# EAGLE library part XCV2000E_FG1156 (library xilinx-xcv)
xcv2000e_fg1156 edit this description Auto generated by make-symbol-device-package-bsdl.ulp Rev. 26 Source: xcv2000e_fg1156.bsd
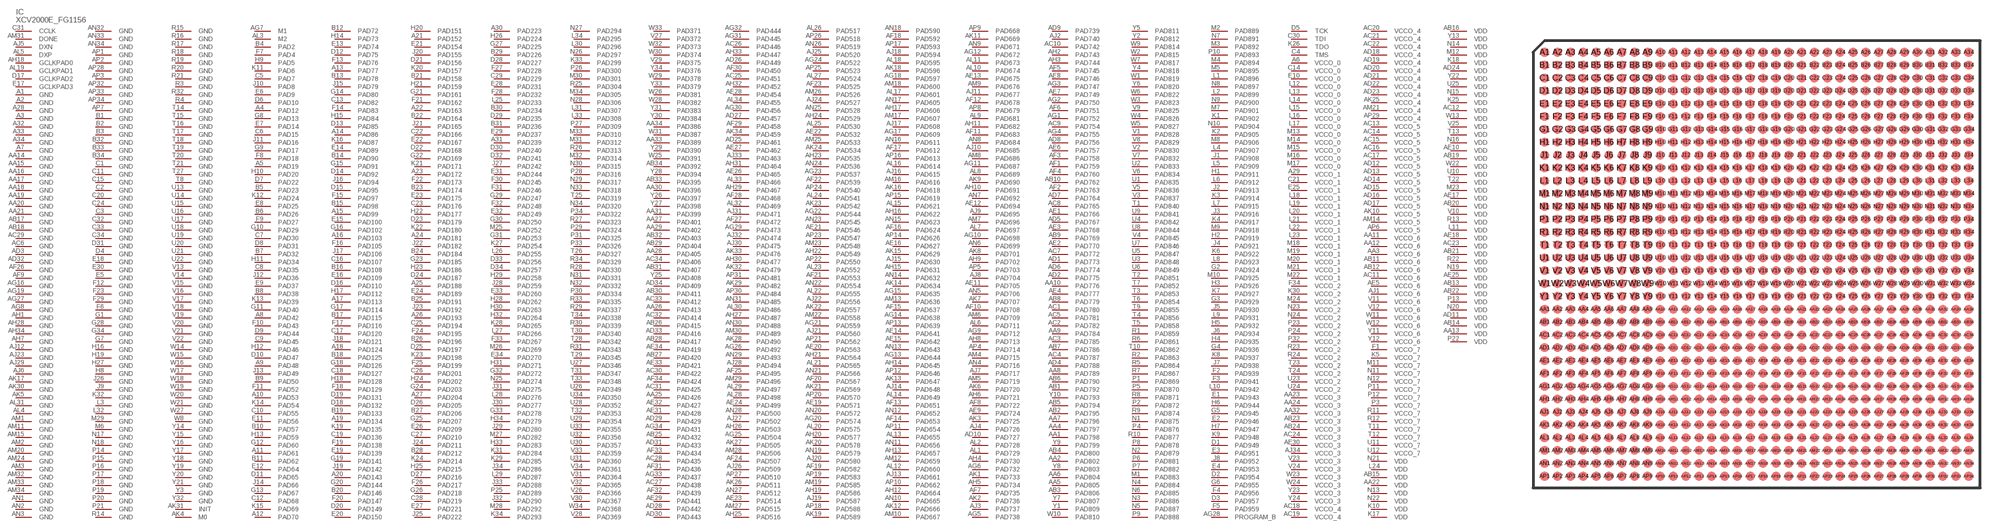
[diagram p50: symbol with the pads of FG1156; footprint FG1156]

Designator prefix IC

## XCV2000E_FG1156 (OC_FARNELL: unknown; OC_NEWARK: unknown)  [FG1156]
A1  GND  pwr
A2  GND  pwr
A3  GND  pwr
A4  PAD12
A5  PAD19
A6  VCCO_0  pwr
A7  GND  pwr
A8  PAD42
A9  PAD48
A10  PAD53
A11  PAD61
A12  PAD70
A13  PAD77
A14  PAD86
A15  PAD99
A16  PAD103
A17  PAD113
A18  PAD124
A19  PAD134
A20  PAD143
A21  PAD152
A22  PAD163
A23  PAD172
A24  PAD181
A25  PAD188
A26  PAD193
A27  PAD204
A28  GND  pwr
A29  VCCO_1  pwr
A30  PAD223
A31  PAD239
A32  GND  pwr
A33  GND  pwr
A34  GND  pwr
AA1  PAD798
AA2  PAD802
AA3  VCCO_6  pwr
AA4  PAD797
AA5  PAD805
AA6  PAD804
AA7  PAD796
AA8  PAD789
AA9  PAD784
AA10  PAD776
AA11  VCCO_6  pwr
AA12  VCCO_6  pwr
AA13  VDD  pwr
AA14  GND  pwr
AA15  GND  pwr
AA16  GND  pwr
AA17  GND  pwr
AA18  GND  pwr
AA19  GND  pwr
AA20  GND  pwr
AA21  GND  pwr
AA22  VDD  pwr
AA23  VCCO_3  pwr
AA24  VCCO_3  pwr
AA25  PAD426
AA26  PAD413
AA27  PAD401
AA28  PAD405
AA29  PAD402
AA30  PAD396
AA31  PAD399
AA32  VCCO_3  pwr
AA33  PAD389
AA34  PAD386
AB1  PAD792
AB2  PAD795
AB3  PAD806
AB4  PAD800
AB5  PAD794
AB6  PAD790
AB7  PAD786
AB8  PAD779
AB9  PAD769
AB10  PAD762
AB11  VCCO_6  pwr
AB12  VCCO_6  pwr
AB13  VDD  pwr
AB14  VDD  pwr
AB15  VDD  pwr
AB16  VDD  pwr
AB17  GND  pwr
AB18  GND  pwr
AB19  VDD  pwr
AB20  VDD  pwr
AB21  VDD  pwr
AB22  VDD  pwr
AB23  VCCO_3  pwr
AB24  VCCO_3  pwr
AB25  PAD432
AB26  PAD415
AB27  PAD420
AB28  PAD417
AB29  PAD404
AB30  PAD411
AB31  PAD407
AB32  PAD403
AB33  PAD395
AB34  PAD392
AC1  PAD780
AC2  PAD782
AC3  PAD785
AC4  PAD787
AC5  PAD781
AC6  GND  pwr
AC7  PAD772
AC8  PAD765
AC9  PAD754
AC10  PAD742
AC11  VCCO_6  pwr
AC12  VDD  pwr
AC13  VCCO_5  pwr
AC14  VCCO_5  pwr
AC15  VCCO_5  pwr
AC16  VCCO_5  pwr
AC17  VCCO_5  pwr
AC18  VCCO_4  pwr
AC19  VCCO_4  pwr
AC20  VCCO_4  pwr
AC21  VCCO_4  pwr
AC22  VCCO_4  pwr
AC23  VDD  pwr
AC24  VCCO_3  pwr
AC25  PAD451
AC26  PAD446
AC27  PAD438
AC28  PAD435
AC29  GND  pwr
AC30  PAD422
AC31  PAD425
AC32  PAD414
AC33  PAD412
AC34  PAD406
AD1  PAD773
AD2  PAD775
AD3  GND  pwr
AD4  PAD788
AD5  PAD767
AD6  PAD774
AD7  PAD764
AD8  PAD756
AD9  PAD739
AD10  PAD727
AD11  VDD  pwr
AD12  VCCO_5  pwr
AD13  VCCO_5  pwr
AD14  VCCO_5  pwr
AD15  VCCO_5  pwr
AD16  VCCO_5  pwr
AD17  VCCO_5  pwr
AD18  VCCO_4  pwr
AD19  VCCO_4  pwr
AD20  VCCO_4  pwr
AD21  VCCO_4  pwr
AD22  VCCO_4  pwr
AD23  VCCO_4  pwr
AD24  VDD  pwr
AD25  PAD461
AD26  PAD449
AD27  PAD457
AD28  PAD442
AD29  PAD429
AD30  PAD443
AD31  PAD433
AD32  GND  pwr
AD33  PAD416
AD34  PAD409
AE1  PAD766
AE2  PAD770
AE3  PAD768
AE4  PAD777
AE5  VCCO_6  pwr
AE6  PAD757
AE7  PAD749
AE8  PAD746
AE9  PAD724
AE10  VDD  pwr
AE11  PAD705
AE12  PAD694
AE13  PAD675
AE14  PAD641
AE15  PAD642
AE16  PAD627
AE17  VDD  pwr
AE18  VDD  pwr
AE19  PAD571
AE20  PAD563
AE21  PAD546
AE22  PAD532
AE23  PAD514
AE24  PAD499
AE25  VDD  pwr
AE26  PAD465
AE27  PAD462
AE28  PAD454
AE29  PAD441
AE30  VCCO_3  pwr
AE31  PAD428
AE32  PAD427
AE33  PAD421
AE34  PAD419
AF1  PAD759
AF2  PAD763
AF3  PAD758
AF4  PAD760
AF5  PAD745
AF6  PAD751
AF7  PAD735
AF8  PAD722
AF9  GND  pwr
AF10  PAD708
AF11  PAD683
AF12  PAD678
AF13  PAD651
AF14  PAD653
AF15  PAD637
AF16  PAD624
AF17  PAD612
AF18  PAD592
AF19  PAD582
AF20  PAD567
AF21  PAD553
AF22  PAD539
AF23  PAD525
AF24  PAD507
AF25  PAD495
AF26  GND  pwr
AF27  PAD472
AF28  PAD468
AF29  PAD458
AF30  PAD450
AF31  PAD436
AF32  PAD439
AF33  PAD434
AF34  PAD424
AG1  PAD752
AG2  PAD750
AG3  PAD747
AG4  PAD755
AG5  PAD738
AG6  PAD732
AG7  M1  in
AG8  GND  pwr
AG9  PAD712
AG10  PAD698
AG11  PAD687
AG12  PAD672
AG13  PAD644
AG14  PAD638
AG15  PAD635
AG16  GND  pwr
AG17  PAD609
AG18  PAD597
AG19  GND  pwr
AG20  PAD574
AG21  PAD559
AG22  PAD544
AG23  PAD537
AG24  PAD522
AG25  PAD504
AG26  PAD492
AG27  GND  pwr
AG28  PROGRAM_B  in
AG29  PAD473
AG30  PAD456
AG31  PAD445
AG32  PAD444
AG33  PAD437
AG34  PAD431
AH1  GND  pwr
AH2  PAD743
AH3  PAD744
AH4  PAD730
AH5  PAD734
AH6  PAD721
AH7  GND  pwr
AH8  PAD713
AH9  PAD702
AH10  PAD691
AH11  PAD682
AH12  PAD664
AH13  PAD657
AH14  PAD645
AH15  PAD631
AH16  PAD622
AH17  PAD606
AH18  GCLKPAD0  in
AH19  PAD586
AH20  PAD577
AH21  PAD564
AH22  PAD549
AH23  PAD535
AH24  PAD529
AH25  PAD516
AH26  PAD503
AH27  PAD487
AH28  GND  pwr
AH29  PAD467
AH30  PAD477
AH31  PAD464
AH32  PAD452
AH33  PAD447
AH34  GND  pwr
AJ1  VCCO_6  pwr
AJ2  PAD740
AJ3  PAD737
AJ4  PAD726
AJ5  DXN  pas
AJ6  GND  pwr
AJ7  PAD717
AJ8  PAD704
AJ9  PAD695
AJ10  PAD685
AJ11  PAD677
AJ12  GND  pwr
AJ13  PAD661
AJ14  PAD648
AJ15  PAD630
AJ16  PAD615
AJ17  PAD608
AJ18  PAD594
AJ19  PAD587
AJ20  PAD580
AJ21  PAD560
AJ22  PAD556
AJ23  GND  pwr
AJ24  PAD527
AJ25  PAD520
AJ26  PAD509
AJ27  PAD502
AJ28  PAD494
AJ29  GND  pwr
AJ30  PAD475
AJ31  PAD471
AJ32  PAD474
AJ33  PAD463
AJ34  VCCO_3  pwr
AK1  PAD733
AK2  PAD736
AK3  PAD725
AK4  M0  in
AK5  GND  pwr
AK6  PAD720
AK7  PAD707
AK8  PAD701
AK9  PAD690
AK10  VCCO_5  pwr
AK11  PAD669
AK12  PAD666
AK13  PAD647
AK14  PAD634
AK15  PAD629
AK16  PAD618
AK17  GND  pwr
AK18  PAD596
AK19  PAD589
AK20  PAD578
AK21  PAD569
AK22  PAD557
AK23  PAD542
AK24  PAD534
AK25  VCCO_4  pwr
AK26  PAD511
AK27  PAD505
AK28  PAD490
AK29  PAD482
AK30  GND  pwr
AK31  INIT
AK32  PAD479
AK33  PAD476
AK34  PAD459
AL1  PAD729
AL2  PAD728
AL3  M2  in
AL4  GND  pwr
AL5  DXP  pas
AL6  PAD711
AL7  PAD697
AL8  PAD689
AL9  PAD681
AL10  PAD674
AL11  PAD673
AL12  PAD660
AL13  PAD655
AL14  PAD649
AL15  PAD621
AL16  PAD614
AL17  PAD601
AL18  PAD595
AL19  GCLKPAD1  in
AL20  PAD575
AL21  PAD565
AL22  PAD555
AL23  PAD552
AL24  PAD541
AL25  PAD530
AL26  PAD517
AL27  PAD524
AL28  PAD498
AL29  PAD497
AL30  PAD486
AL31  GND  pwr
AL32  PAD469
AL33  PAD466
AL34  PAD455
AM1  GND  pwr
AM2  GND  pwr
AM3  GND  pwr
AM4  PAD715
AM5  PAD719
AM6  PAD709
AM7  PAD696
AM8  PAD686
AM9  PAD676
AM10  PAD667
AM11  GND  pwr
AM12  PAD659
AM13  PAD636
AM14  VCCO_5  pwr
AM15  GND  pwr
AM16  PAD616
AM17  PAD607
AM18  PAD600
AM19  PAD585
AM20  GND  pwr
AM21  VCCO_4  pwr
AM22  PAD558
AM23  PAD548
AM24  GND  pwr
AM25  PAD533
AM26  PAD526
AM27  PAD515
AM28  PAD506
AM29  PAD496
AM30  PAD489
AM31  DONE
AM32  GND  pwr
AM33  GND  pwr
AM34  GND  pwr
AN1  GND  pwr
AN2  GND  pwr
AN3  GND  pwr
AN4  PAD716
AN5  PAD706
AN6  PAD699
AN7  PAD692
AN8  PAD684
AN9  PAD671
AN10  PAD665
AN11  PAD656
AN12  PAD652
AN13  PAD643
AN14  PAD632
AN15  PAD623
AN16  PAD611
AN17  PAD605
AN18  PAD590
AN19  PAD579
AN20  PAD572
AN21  PAD566
AN22  PAD554
AN23  PAD545
AN24  PAD536
AN25  PAD528
AN26  PAD519
AN27  PAD512
AN28  PAD500
AN29  PAD493
AN30  PAD488
AN31  PAD485
AN32  GND  pwr
AN33  GND  pwr
AN34  GND  pwr
AP1  GND  pwr
AP2  GND  pwr
AP3  GND  pwr
AP4  PAD714
AP5  PAD703
AP6  VCCO_5  pwr
AP7  GND  pwr
AP8  PAD679
AP9  PAD668
AP10  PAD662
AP11  PAD654
AP12  PAD646
AP13  PAD639
AP14  PAD626
AP15  PAD619
AP16  PAD613
AP17  PAD593
AP18  PAD588
AP19  PAD583
AP20  PAD570
AP21  PAD562
AP22  PAD550
AP23  PAD547
AP24  PAD540
AP25  PAD523
AP26  PAD518
AP27  PAD510
AP28  GND  pwr
AP29  VCCO_4  pwr
AP30  PAD484
AP31  PAD481
AP32  GND  pwr
AP33  GND  pwr
AP34  GND  pwr
B1  GND  pwr
B2  GND  pwr
B3  GND  pwr
B4  PAD2
B5  PAD23
B6  PAD26
B7  PAD32
B8  PAD38
B9  PAD50
B10  PAD57
B11  PAD62
B12  PAD72
B13  PAD78
B14  PAD90
B15  PAD98
B16  PAD108
B17  PAD115
B18  PAD125
B19  PAD133
B20  PAD146
B21  PAD158
B22  PAD164
B23  PAD174
B24  PAD184
B25  PAD191
B26  PAD196
B27  PAD206
B28  PAD212
B29  PAD226
B30  PAD234
B31  PAD236
B32  GND  pwr
B33  GND  pwr
B34  GND  pwr
C1  GND  pwr
C2  GND  pwr
C3  GND  pwr
C4  TMS  in
C5  PAD7
C6  PAD15
C7  PAD30
C8  PAD35
C9  PAD45
C10  PAD55
C11  GND  pwr
C12  PAD68
C13  PAD82
C14  VCCO_0  pwr
C15  GND  pwr
C16  PAD107
C17  PAD120
C18  PAD127
C19  PAD136
C20  GND  pwr
C21  VCCO_1  pwr
C22  PAD166
C23  PAD176
C24  GND  pwr
C25  PAD194
C26  PAD201
C27  PAD210
C28  PAD219
C29  PAD229
C30  TDI  in
C31  CCLK
C32  GND  pwr
C33  GND  pwr
C34  GND  pwr
D1  PAD949
D2  PAD954
D3  PAD957
D4  GND  pwr
D5  TCK  in
D6  PAD10
D7  PAD22
D8  PAD31
D9  PAD44
D10  PAD47
D11  PAD65
D12  PAD75
D13  PAD85
D14  PAD92
D15  PAD95
D16  PAD110
D17  GCLKPAD2  in
D18  PAD132
D19  PAD131
D20  PAD149
D21  PAD156
D22  PAD168
D23  PAD179
D24  PAD187
D25  PAD197
D26  PAD205
D27  PAD216
D28  PAD227
D29  PAD235
D30  PAD240
D31  GND  pwr
D32  PAD241
D33  PAD256
D34  PAD257
E1  PAD943
E2  PAD946
E3  PAD951
E4  PAD953
E5  GND  pwr
E6  PAD9
E7  PAD14
E8  PAD25
E9  PAD37
E10  VCCO_0  pwr
E11  PAD56
E12  PAD64
E13  PAD74
E14  PAD89
E15  PAD100
E16  PAD109
E17  GCLKPAD3  in
E18  GND  pwr
E19  PAD139
E20  PAD150
E21  PAD154
E22  PAD167
E23  PAD175
E24  PAD189
E25  VCCO_1  pwr
E26  PAD209
E27  PAD221
E28  PAD231
E29  PAD237
E30  GND  pwr
E31  PAD244
E32  PAD249
E33  PAD260
E34  PAD270
F1  VCCO_7  pwr
F2  PAD939
F3  PAD941
F4  PAD956
F5  PAD959
F6  GND  pwr
F7  PAD4
F8  PAD18
F9  PAD27
F10  PAD43
F11  PAD52
F12  GND  pwr
F13  PAD76
F14  PAD83
F15  PAD97
F16  PAD105
F17  PAD116
F18  PAD129
F19  PAD138
F20  PAD147
F21  PAD162
F22  PAD173
F23  GND  pwr
F24  PAD195
F25  PAD199
F26  PAD217
F27  PAD228
F28  PAD232
F29  GND  pwr
F30  PAD245
F31  PAD246
F32  PAD248
F33  PAD267
F34  VCCO_2  pwr
G1  GND  pwr
G2  PAD924
G3  PAD929
G4  PAD936
G5  PAD945
G6  PAD955
G7  GND  pwr
G8  PAD13
G9  PAD17
G10  PAD29
G11  PAD40
G12  PAD60
G13  PAD67
G14  PAD80
G15  PAD91
G16  PAD102
G17  PAD114
G18  PAD126
G19  PAD141
G20  PAD144
G21  PAD161
G22  PAD169
G23  PAD185
G24  PAD203
G25  PAD207
G26  PAD218
G27  PAD225
G28  GND  pwr
G29  PAD247
G30  PAD250
G31  PAD253
G32  PAD272
G33  PAD278
G34  GND  pwr
H1  PAD911
H2  PAD919
H3  PAD926
H4  PAD935
H5  PAD932
H6  PAD944
H7  PAD947
H8  GND  pwr
H9  PAD5
H10  PAD20
H11  PAD34
H12  PAD46
H13  PAD59
H14  PAD73
H15  PAD84
H16  GND  pwr
H17  PAD112
H18  PAD128
H19  GND  pwr
H20  PAD151
H21  PAD159
H22  PAD177
H23  PAD186
H24  PAD202
H25  PAD215
H26  PAD224
H27  GND  pwr
H28  PAD262
H29  PAD258
H30  PAD263
H31  PAD271
H32  PAD264
H33  PAD283
H34  PAD279
J1  PAD908
J2  PAD913
J3  PAD916
J4  PAD921
J5  PAD930
J6  PAD934
J7  PAD938
J8  PAD952
J9  GND  pwr
J10  PAD8
J11  PAD16
J12  PAD36
J13  PAD49
J14  PAD66
J15  PAD79
J16  PAD94
J17  PAD106
J18  PAD121
J19  PAD142
J20  PAD155
J21  PAD165
J22  PAD182
J23  PAD192
J24  PAD211
J25  PAD222
J26  GND  pwr
J27  PAD242
J28  PAD259
J29  PAD280
J30  PAD277
J31  PAD275
J32  PAD290
J33  PAD288
J34  PAD286
K1  PAD902
K2  PAD905
K3  PAD914
K4  PAD917
K5  VCCO_7  pwr
K6  PAD922
K7  PAD927
K8  PAD937
K9  PAD948
K10  VDD  pwr
K11  PAD6
K12  PAD24
K13  PAD39
K14  PAD54
K15  PAD69
K16  PAD87
K17  VDD  pwr
K18  VDD  pwr
K19  PAD135
K20  PAD157
K21  PAD171
K22  PAD180
K23  PAD198
K24  PAD214
K25  VDD  pwr
K26  TDO  out
K27  PAD254
K28  PAD265
K29  PAD285
K30  VCCO_2  pwr
K31  PAD284
K32  GND  pwr
K33  PAD299
K34  PAD293
L1  PAD896
L2  PAD899
L3  GND  pwr
L4  PAD907
L5  PAD909
L6  PAD912
L7  PAD915
L8  PAD923
L9  PAD931
L10  PAD942
L11  VDD  pwr
L12  VCCO_0  pwr
L13  VCCO_0  pwr
L14  VCCO_0  pwr
L15  VCCO_0  pwr
L16  VCCO_0  pwr
L17  VCCO_0  pwr
L18  VCCO_1  pwr
L19  VCCO_1  pwr
L20  VCCO_1  pwr
L21  VCCO_1  pwr
L22  VCCO_1  pwr
L23  VCCO_1  pwr
L24  VDD  pwr
L25  PAD233
L26  PAD255
L27  PAD266
L28  PAD276
L29  PAD287
L30  PAD296
L31  PAD307
L32  GND  pwr
L33  PAD308
L34  PAD295
M1  PAD883
M2  PAD889
M3  PAD892
M4  PAD894
M5  PAD895
M6  GND  pwr
M7  PAD901
M8  PAD906
M9  PAD918
M10  PAD925
M11  VCCO_7  pwr
M12  VDD  pwr
M13  VCCO_0  pwr
M14  VCCO_0  pwr
M15  VCCO_0  pwr
M16  VCCO_0  pwr
M17  VCCO_0  pwr
M18  VCCO_1  pwr
M19  VCCO_1  pwr
M20  VCCO_1  pwr
M21  VCCO_1  pwr
M22  VCCO_1  pwr
M23  VDD  pwr
M24  VCCO_2  pwr
M25  PAD252
M26  PAD269
M27  PAD282
M28  PAD292
M29  GND  pwr
M30  PAD301
M31  PAD312
M32  PAD314
M33  PAD310
M34  PAD305
N1  PAD875
N2  PAD879
N3  PAD886
N4  PAD884
N5  PAD887
N6  PAD885
N7  PAD891
N8  PAD897
N9  PAD900
N10  PAD904
N11  VCCO_7  pwr
N12  VCCO_7  pwr
N13  VDD  pwr
N14  VDD  pwr
N15  VDD  pwr
N16  VDD  pwr
N17  GND  pwr
N18  GND  pwr
N19  VDD  pwr
N20  VDD  pwr
N21  VDD  pwr
N22  VDD  pwr
N23  VCCO_2  pwr
N24  VCCO_2  pwr
N25  PAD274
N26  PAD297
N27  PAD294
N28  PAD306
N29  PAD317
N30  PAD315
N31  PAD331
N32  PAD332
N33  PAD318
N34  PAD320
P1  PAD869
P2  PAD872
P3  VCCO_7  pwr
P4  PAD876
P5  PAD870
P6  PAD881
P7  PAD882
P8  PAD878
P9  PAD888
P10  PAD893
P11  VCCO_7  pwr
P12  VCCO_7  pwr
P13  VDD  pwr
P14  GND  pwr
P15  GND  pwr
P16  GND  pwr
P17  GND  pwr
P18  GND  pwr
P19  GND  pwr
P20  GND  pwr
P21  GND  pwr
P22  VDD  pwr
P23  VCCO_2  pwr
P24  VCCO_2  pwr
P25  PAD289
P26  PAD300
P27  PAD309
P28  PAD316
P29  PAD324
P30  PAD334
P31  PAD325
P32  VCCO_2  pwr
P33  PAD326
P34  PAD322
R1  PAD859
R2  PAD863
R3  GND  pwr
R4  GND  pwr
R5  PAD864
R6  PAD861
R7  PAD867
R8  PAD871
R9  PAD874
R10  PAD877
R11  VCCO_7  pwr
R12  VCCO_7  pwr
R13  VDD  pwr
R14  GND  pwr
R15  GND  pwr
R16  GND  pwr
R17  GND  pwr
R18  GND  pwr
R19  GND  pwr
R20  GND  pwr
R21  GND  pwr
R22  VDD  pwr
R23  VCCO_2  pwr
R24  VCCO_2  pwr
R25  PAD304
R26  PAD313
R27  PAD323
R28  PAD330
R29  PAD337
R30  PAD339
R31  PAD343
R32  GND  pwr
R33  PAD335
R34  PAD329
T1  PAD840
T2  PAD851
T3  PAD853
T4  PAD856
T5  PAD858
T6  PAD854
T7  PAD852
T8  GND  pwr
T9  PAD855
T10  PAD862
T11  VCCO_7  pwr
T12  VCCO_7  pwr
T13  VDD  pwr
T14  GND  pwr
T15  GND  pwr
T16  GND  pwr
T17  GND  pwr
T18  GND  pwr
T19  GND  pwr
T20  GND  pwr
T21  GND  pwr
T22  VDD  pwr
T23  VCCO_2  pwr
T24  VCCO_2  pwr
T25  PAD319
T26  PAD327
T27  GND  pwr
T28  PAD342
T29  PAD345
T30  PAD340
T31  PAD347
T32  PAD353
T33  PAD348
T34  PAD338
U1  PAD835
U2  PAD833
U3  PAD848
U4  PAD842
U5  PAD847
U6  PAD849
U7  PAD846
U8  PAD844
U9  PAD841
U10  VDD  pwr
U11  VCCO_7  pwr
U12  VCCO_7  pwr
U13  GND  pwr
U14  GND  pwr
U15  GND  pwr
U16  GND  pwr
U17  GND  pwr
U18  GND  pwr
U19  GND  pwr
U20  GND  pwr
U21  GND  pwr
U22  GND  pwr
U23  VCCO_2  pwr
U24  VCCO_2  pwr
U25  VDD  pwr
U26  PAD349
U27  PAD346
U28  PAD352
U29  PAD354
U30  PAD357
U31  PAD360
U32  PAD356
U33  PAD355
U34  PAD350
V1  PAD828
V2  PAD830
V3  PAD837
V4  PAD845
V5  PAD836
V6  PAD834
V7  PAD832
V8  PAD829
V9  PAD825
V10  VDD  pwr
V11  VCCO_6  pwr
V12  VCCO_6  pwr
V13  GND  pwr
V14  GND  pwr
V15  GND  pwr
V16  GND  pwr
V17  GND  pwr
V18  GND  pwr
V19  GND  pwr
V20  GND  pwr
V21  GND  pwr
V22  GND  pwr
V23  VCCO_3  pwr
V24  VCCO_3  pwr
V25  VDD  pwr
V26  PAD366
V27  PAD372
V28  PAD369
V29  PAD375
V30  PAD367
V31  PAD364
V32  PAD365
V33  PAD359
V34  PAD361
W1  PAD819
W2  PAD815
W3  PAD823
W4  PAD826
W5  PAD827
W6  PAD822
W7  PAD817
W8  GND  pwr
W9  PAD814
W10  PAD810
W11  VCCO_6  pwr
W12  VCCO_6  pwr
W13  VDD  pwr
W14  GND  pwr
W15  GND  pwr
W16  GND  pwr
W17  GND  pwr
W18  GND  pwr
W19  GND  pwr
W20  GND  pwr
W21  GND  pwr
W22  VDD  pwr
W23  VCCO_3  pwr
W24  VCCO_3  pwr
W25  PAD391
W26  PAD381
W27  GND  pwr
W28  PAD382
W29  PAD378
W30  PAD374
W31  PAD387
W32  PAD373
W33  PAD371
W34  PAD368
Y1  PAD809
Y2  PAD812
Y3  GND  pwr
Y4  PAD818
Y5  PAD811
Y6  PAD820
Y7  PAD807
Y8  PAD803
Y9  PAD799
Y10  PAD793
Y11  VCCO_6  pwr
Y12  VCCO_6  pwr
Y13  VDD  pwr
Y14  GND  pwr
Y15  GND  pwr
Y16  GND  pwr
Y17  GND  pwr
Y18  GND  pwr
Y19  GND  pwr
Y20  GND  pwr
Y21  GND  pwr
Y22  VDD  pwr
Y23  VCCO_3  pwr
Y24  VCCO_3  pwr
Y25  PAD408
Y26  PAD397
Y27  PAD398
Y28  PAD394
Y29  PAD390
Y30  PAD384
Y31  PAD383
Y32  GND  pwr
Y33  PAD379
Y34  PAD376

## Footprint FG1156 (pad centres in mm)
xcv1000e_fg1156_1532 edit this description Auto generated by make-symbol-device-package-bsdl.ulp Rev. 26 Source: xcv1000e_fg1156_1532.bsd
smd 0.7 x 0.7: A1 -16.5,16.5; A2 -15.5,16.5; A3 -14.5,16.5; A4 -13.5,16.5; A5 -12.5,16.5; A6 -11.5,16.5; A7 -10.5,16.5; A8 -9.5,16.5; A9 -8.5,16.5; A10 -7.5,16.5; A11 -6.5,16.5; A12 -5.5,16.5; A13 -4.5,16.5; A14 -3.5,16.5; A15 -2.5,16.5; A16 -1.5,16.5; A17 -0.5,16.5; A18 0.5,16.5; A19 1.5,16.5; A20 2.5,16.5; A21 3.5,16.5; A22 4.5,16.5; A23 5.5,16.5; A24 6.5,16.5; A25 7.5,16.5; A26 8.5,16.5; A27 9.5,16.5; A28 10.5,16.5; A29 11.5,16.5; A30 12.5,16.5; A31 13.5,16.5; A32 14.5,16.5; A33 15.5,16.5; A34 16.5,16.5; AA1 -16.5,-3.5; AA2 -15.5,-3.5; AA3 -14.5,-3.5; AA4 -13.5,-3.5; AA5 -12.5,-3.5; AA6 -11.5,-3.5; AA7 -10.5,-3.5; AA8 -9.5,-3.5; AA9 -8.5,-3.5; AA10 -7.5,-3.5; AA11 -6.5,-3.5; AA12 -5.5,-3.5; AA13 -4.5,-3.5; AA14 -3.5,-3.5; AA15 -2.5,-3.5; AA16 -1.5,-3.5; AA17 -0.5,-3.5; AA18 0.5,-3.5; AA19 1.5,-3.5; AA20 2.5,-3.5; AA21 3.5,-3.5; AA22 4.5,-3.5; AA23 5.5,-3.5; AA24 6.5,-3.5; AA25 7.5,-3.5; AA26 8.5,-3.5; AA27 9.5,-3.5; AA28 10.5,-3.5; AA29 11.5,-3.5; AA30 12.5,-3.5; AA31 13.5,-3.5; AA32 14.5,-3.5; AA33 15.5,-3.5; AA34 16.5,-3.5; AB1 -16.5,-4.5; AB2 -15.5,-4.5; AB3 -14.5,-4.5; AB4 -13.5,-4.5; AB5 -12.5,-4.5; AB6 -11.5,-4.5; AB7 -10.5,-4.5; AB8 -9.5,-4.5; AB9 -8.5,-4.5; AB10 -7.5,-4.5; AB11 -6.5,-4.5; AB12 -5.5,-4.5; AB13 -4.5,-4.5; AB14 -3.5,-4.5; AB15 -2.5,-4.5; AB16 -1.5,-4.5; AB17 -0.5,-4.5; AB18 0.5,-4.5; AB19 1.5,-4.5; AB20 2.5,-4.5; AB21 3.5,-4.5; AB22 4.5,-4.5; AB23 5.5,-4.5; AB24 6.5,-4.5; AB25 7.5,-4.5; AB26 8.5,-4.5; AB27 9.5,-4.5; AB28 10.5,-4.5; AB29 11.5,-4.5; AB30 12.5,-4.5; AB31 13.5,-4.5; AB32 14.5,-4.5; AB33 15.5,-4.5; AB34 16.5,-4.5; AC1 -16.5,-5.5; AC2 -15.5,-5.5; AC3 -14.5,-5.5; AC4 -13.5,-5.5; AC5 -12.5,-5.5; AC6 -11.5,-5.5; AC7 -10.5,-5.5; AC8 -9.5,-5.5; AC9 -8.5,-5.5; AC10 -7.5,-5.5; AC11 -6.5,-5.5; AC12 -5.5,-5.5; AC13 -4.5,-5.5; AC14 -3.5,-5.5; AC15 -2.5,-5.5; AC16 -1.5,-5.5; AC17 -0.5,-5.5; AC18 0.5,-5.5; AC19 1.5,-5.5; AC20 2.5,-5.5; AC21 3.5,-5.5; AC22 4.5,-5.5; AC23 5.5,-5.5; AC24 6.5,-5.5; AC25 7.5,-5.5; AC26 8.5,-5.5; AC27 9.5,-5.5; AC28 10.5,-5.5; AC29 11.5,-5.5; AC30 12.5,-5.5; AC31 13.5,-5.5; AC32 14.5,-5.5; AC33 15.5,-5.5; AC34 16.5,-5.5; AD1 -16.5,-6.5; AD2 -15.5,-6.5; AD3 -14.5,-6.5; AD4 -13.5,-6.5; AD5 -12.5,-6.5; AD6 -11.5,-6.5; AD7 -10.5,-6.5; AD8 -9.5,-6.5; AD9 -8.5,-6.5; AD10 -7.5,-6.5; AD11 -6.5,-6.5; AD12 -5.5,-6.5; AD13 -4.5,-6.5; AD14 -3.5,-6.5; AD15 -2.5,-6.5; AD16 -1.5,-6.5; AD17 -0.5,-6.5; AD18 0.5,-6.5; AD19 1.5,-6.5; AD20 2.5,-6.5; AD21 3.5,-6.5; AD22 4.5,-6.5; AD23 5.5,-6.5; AD24 6.5,-6.5; AD25 7.5,-6.5; AD26 8.5,-6.5; AD27 9.5,-6.5; AD28 10.5,-6.5; AD29 11.5,-6.5; AD30 12.5,-6.5; AD31 13.5,-6.5; AD32 14.5,-6.5; AD33 15.5,-6.5; AD34 16.5,-6.5; AE1 -16.5,-7.5; AE2 -15.5,-7.5; AE3 -14.5,-7.5; AE4 -13.5,-7.5; AE5 -12.5,-7.5; AE6 -11.5,-7.5; AE7 -10.5,-7.5; AE8 -9.5,-7.5; AE9 -8.5,-7.5; AE10 -7.5,-7.5; AE11 -6.5,-7.5; AE12 -5.5,-7.5; AE13 -4.5,-7.5; AE14 -3.5,-7.5; AE15 -2.5,-7.5; AE16 -1.5,-7.5; AE17 -0.5,-7.5; AE18 0.5,-7.5; AE19 1.5,-7.5; AE20 2.5,-7.5; AE21 3.5,-7.5; AE22 4.5,-7.5; AE23 5.5,-7.5; AE24 6.5,-7.5; AE25 7.5,-7.5; AE26 8.5,-7.5; AE27 9.5,-7.5; AE28 10.5,-7.5; AE29 11.5,-7.5; AE30 12.5,-7.5; AE31 13.5,-7.5; AE32 14.5,-7.5; AE33 15.5,-7.5; AE34 16.5,-7.5; AF1 -16.5,-8.5; AF2 -15.5,-8.5; AF3 -14.5,-8.5; AF4 -13.5,-8.5; AF5 -12.5,-8.5; AF6 -11.5,-8.5; AF7 -10.5,-8.5; AF8 -9.5,-8.5; AF9 -8.5,-8.5; AF10 -7.5,-8.5; AF11 -6.5,-8.5; AF12 -5.5,-8.5; AF13 -4.5,-8.5; AF14 -3.5,-8.5; AF15 -2.5,-8.5; AF16 -1.5,-8.5; AF17 -0.5,-8.5; AF18 0.5,-8.5; AF19 1.5,-8.5; AF20 2.5,-8.5; AF21 3.5,-8.5; AF22 4.5,-8.5; AF23 5.5,-8.5; AF24 6.5,-8.5; AF25 7.5,-8.5; AF26 8.5,-8.5; AF27 9.5,-8.5; AF28 10.5,-8.5; AF29 11.5,-8.5; AF30 12.5,-8.5; AF31 13.5,-8.5; AF32 14.5,-8.5; AF33 15.5,-8.5; AF34 16.5,-8.5; AG1 -16.5,-9.5; AG2 -15.5,-9.5; AG3 -14.5,-9.5; AG4 -13.5,-9.5; AG5 -12.5,-9.5; AG6 -11.5,-9.5; AG7 -10.5,-9.5; AG8 -9.5,-9.5; AG9 -8.5,-9.5; AG10 -7.5,-9.5; AG11 -6.5,-9.5; AG12 -5.5,-9.5; AG13 -4.5,-9.5; AG14 -3.5,-9.5; AG15 -2.5,-9.5; AG16 -1.5,-9.5; AG17 -0.5,-9.5; AG18 0.5,-9.5; AG19 1.5,-9.5; AG20 2.5,-9.5; AG21 3.5,-9.5; AG22 4.5,-9.5; AG23 5.5,-9.5; AG24 6.5,-9.5; AG25 7.5,-9.5; AG26 8.5,-9.5; AG27 9.5,-9.5; AG28 10.5,-9.5; AG29 11.5,-9.5; AG30 12.5,-9.5; AG31 13.5,-9.5; AG32 14.5,-9.5; AG33 15.5,-9.5; AG34 16.5,-9.5; AH1 -16.5,-10.5; AH2 -15.5,-10.5; AH3 -14.5,-10.5; AH4 -13.5,-10.5; AH5 -12.5,-10.5; AH6 -11.5,-10.5; AH7 -10.5,-10.5; AH8 -9.5,-10.5; AH9 -8.5,-10.5; AH10 -7.5,-10.5; AH11 -6.5,-10.5; AH12 -5.5,-10.5; AH13 -4.5,-10.5; AH14 -3.5,-10.5; AH15 -2.5,-10.5; AH16 -1.5,-10.5; AH17 -0.5,-10.5; AH18 0.5,-10.5; AH19 1.5,-10.5; AH20 2.5,-10.5; AH21 3.5,-10.5; AH22 4.5,-10.5; AH23 5.5,-10.5; AH24 6.5,-10.5; AH25 7.5,-10.5; AH26 8.5,-10.5; AH27 9.5,-10.5; AH28 10.5,-10.5; AH29 11.5,-10.5; AH30 12.5,-10.5; AH31 13.5,-10.5; AH32 14.5,-10.5; AH33 15.5,-10.5; AH34 16.5,-10.5; AJ1 -16.5,-11.5; AJ2 -15.5,-11.5; AJ3 -14.5,-11.5; AJ4 -13.5,-11.5; AJ5 -12.5,-11.5; AJ6 -11.5,-11.5; AJ7 -10.5,-11.5; AJ8 -9.5,-11.5; AJ9 -8.5,-11.5; AJ10 -7.5,-11.5; AJ11 -6.5,-11.5; AJ12 -5.5,-11.5; AJ13 -4.5,-11.5; AJ14 -3.5,-11.5; AJ15 -2.5,-11.5; AJ16 -1.5,-11.5; AJ17 -0.5,-11.5; AJ18 0.5,-11.5; AJ19 1.5,-11.5; AJ20 2.5,-11.5; AJ21 3.5,-11.5; AJ22 4.5,-11.5; AJ23 5.5,-11.5; AJ24 6.5,-11.5; AJ25 7.5,-11.5; AJ26 8.5,-11.5; AJ27 9.5,-11.5; AJ28 10.5,-11.5; AJ29 11.5,-11.5; AJ30 12.5,-11.5; AJ31 13.5,-11.5; AJ32 14.5,-11.5; AJ33 15.5,-11.5; AJ34 16.5,-11.5; AK1 -16.5,-12.5; AK2 -15.5,-12.5; AK3 -14.5,-12.5; AK4 -13.5,-12.5; AK5 -12.5,-12.5; AK6 -11.5,-12.5; AK7 -10.5,-12.5; AK8 -9.5,-12.5; AK9 -8.5,-12.5; AK10 -7.5,-12.5; AK11 -6.5,-12.5; AK12 -5.5,-12.5; AK13 -4.5,-12.5; AK14 -3.5,-12.5; AK15 -2.5,-12.5; AK16 -1.5,-12.5; AK17 -0.5,-12.5; AK18 0.5,-12.5; AK19 1.5,-12.5; AK20 2.5,-12.5; AK21 3.5,-12.5; AK22 4.5,-12.5; AK23 5.5,-12.5; AK24 6.5,-12.5; AK25 7.5,-12.5; AK26 8.5,-12.5; AK27 9.5,-12.5; AK28 10.5,-12.5; AK29 11.5,-12.5; AK30 12.5,-12.5; AK31 13.5,-12.5; AK32 14.5,-12.5; AK33 15.5,-12.5; AK34 16.5,-12.5; AL1 -16.5,-13.5; AL2 -15.5,-13.5; AL3 -14.5,-13.5; AL4 -13.5,-13.5; AL5 -12.5,-13.5; AL6 -11.5,-13.5; AL7 -10.5,-13.5; AL8 -9.5,-13.5; AL9 -8.5,-13.5; AL10 -7.5,-13.5; AL11 -6.5,-13.5; AL12 -5.5,-13.5; AL13 -4.5,-13.5; AL14 -3.5,-13.5; AL15 -2.5,-13.5; AL16 -1.5,-13.5; AL17 -0.5,-13.5; AL18 0.5,-13.5; AL19 1.5,-13.5; AL20 2.5,-13.5; AL21 3.5,-13.5; AL22 4.5,-13.5; AL23 5.5,-13.5; AL24 6.5,-13.5; AL25 7.5,-13.5; AL26 8.5,-13.5; AL27 9.5,-13.5; AL28 10.5,-13.5; AL29 11.5,-13.5; AL30 12.5,-13.5; AL31 13.5,-13.5; AL32 14.5,-13.5; AL33 15.5,-13.5; AL34 16.5,-13.5; AM1 -16.5,-14.5; AM2 -15.5,-14.5; AM3 -14.5,-14.5; AM4 -13.5,-14.5; AM5 -12.5,-14.5; AM6 -11.5,-14.5; AM7 -10.5,-14.5; AM8 -9.5,-14.5; AM9 -8.5,-14.5; AM10 -7.5,-14.5; AM11 -6.5,-14.5; AM12 -5.5,-14.5; AM13 -4.5,-14.5; AM14 -3.5,-14.5; AM15 -2.5,-14.5; AM16 -1.5,-14.5; AM17 -0.5,-14.5; AM18 0.5,-14.5; AM19 1.5,-14.5; AM20 2.5,-14.5; AM21 3.5,-14.5; AM22 4.5,-14.5; AM23 5.5,-14.5; AM24 6.5,-14.5; AM25 7.5,-14.5; AM26 8.5,-14.5; AM27 9.5,-14.5; AM28 10.5,-14.5; AM29 11.5,-14.5; AM30 12.5,-14.5; AM31 13.5,-14.5; AM32 14.5,-14.5; AM33 15.5,-14.5; AM34 16.5,-14.5; AN1 -16.5,-15.5; AN2 -15.5,-15.5; AN3 -14.5,-15.5; AN4 -13.5,-15.5; AN5 -12.5,-15.5; AN6 -11.5,-15.5; AN7 -10.5,-15.5; AN8 -9.5,-15.5; AN9 -8.5,-15.5; AN10 -7.5,-15.5; AN11 -6.5,-15.5; AN12 -5.5,-15.5; AN13 -4.5,-15.5; AN14 -3.5,-15.5; AN15 -2.5,-15.5; AN16 -1.5,-15.5; AN17 -0.5,-15.5; AN18 0.5,-15.5; AN19 1.5,-15.5; AN20 2.5,-15.5; AN21 3.5,-15.5; AN22 4.5,-15.5; AN23 5.5,-15.5; AN24 6.5,-15.5; AN25 7.5,-15.5; AN26 8.5,-15.5; AN27 9.5,-15.5; AN28 10.5,-15.5; AN29 11.5,-15.5; AN30 12.5,-15.5; AN31 13.5,-15.5; AN32 14.5,-15.5; AN33 15.5,-15.5; AN34 16.5,-15.5; AP1 -16.5,-16.5; AP2 -15.5,-16.5; AP3 -14.5,-16.5; AP4 -13.5,-16.5; AP5 -12.5,-16.5; AP6 -11.5,-16.5; AP7 -10.5,-16.5; AP8 -9.5,-16.5; AP9 -8.5,-16.5; AP10 -7.5,-16.5; AP11 -6.5,-16.5; AP12 -5.5,-16.5; AP13 -4.5,-16.5; AP14 -3.5,-16.5; AP15 -2.5,-16.5; AP16 -1.5,-16.5; AP17 -0.5,-16.5; AP18 0.5,-16.5; AP19 1.5,-16.5; AP20 2.5,-16.5; AP21 3.5,-16.5; AP22 4.5,-16.5; AP23 5.5,-16.5; AP24 6.5,-16.5; AP25 7.5,-16.5; AP26 8.5,-16.5; AP27 9.5,-16.5; AP28 10.5,-16.5; AP29 11.5,-16.5; AP30 12.5,-16.5; AP31 13.5,-16.5; AP32 14.5,-16.5; AP33 15.5,-16.5; AP34 16.5,-16.5; B1 -16.5,15.5; B2 -15.5,15.5; B3 -14.5,15.5; B4 -13.5,15.5; B5 -12.5,15.5; B6 -11.5,15.5; B7 -10.5,15.5; B8 -9.5,15.5; B9 -8.5,15.5; B10 -7.5,15.5; B11 -6.5,15.5; B12 -5.5,15.5; B13 -4.5,15.5; B14 -3.5,15.5; B15 -2.5,15.5; B16 -1.5,15.5; B17 -0.5,15.5; B18 0.5,15.5; B19 1.5,15.5; B20 2.5,15.5; B21 3.5,15.5; B22 4.5,15.5; B23 5.5,15.5; B24 6.5,15.5; B25 7.5,15.5; B26 8.5,15.5; B27 9.5,15.5; B28 10.5,15.5; B29 11.5,15.5; B30 12.5,15.5; B31 13.5,15.5; B32 14.5,15.5; B33 15.5,15.5; B34 16.5,15.5; C1 -16.5,14.5; C2 -15.5,14.5; C3 -14.5,14.5; C4 -13.5,14.5; C5 -12.5,14.5; C6 -11.5,14.5; C7 -10.5,14.5; C8 -9.5,14.5; C9 -8.5,14.5; C10 -7.5,14.5; C11 -6.5,14.5; C12 -5.5,14.5; C13 -4.5,14.5; C14 -3.5,14.5; C15 -2.5,14.5; C16 -1.5,14.5; C17 -0.5,14.5; C18 0.5,14.5; C19 1.5,14.5; C20 2.5,14.5; C21 3.5,14.5; C22 4.5,14.5; C23 5.5,14.5; C24 6.5,14.5; C25 7.5,14.5; C26 8.5,14.5; C27 9.5,14.5; C28 10.5,14.5; C29 11.5,14.5; C30 12.5,14.5; C31 13.5,14.5; C32 14.5,14.5; C33 15.5,14.5; C34 16.5,14.5; D1 -16.5,13.5; D2 -15.5,13.5; D3 -14.5,13.5; D4 -13.5,13.5; D5 -12.5,13.5; D6 -11.5,13.5; D7 -10.5,13.5; D8 -9.5,13.5; D9 -8.5,13.5; D10 -7.5,13.5; D11 -6.5,13.5; D12 -5.5,13.5; D13 -4.5,13.5; D14 -3.5,13.5; D15 -2.5,13.5; D16 -1.5,13.5; D17 -0.5,13.5; D18 0.5,13.5; D19 1.5,13.5; D20 2.5,13.5; D21 3.5,13.5; D22 4.5,13.5; D23 5.5,13.5; D24 6.5,13.5; D25 7.5,13.5; D26 8.5,13.5; D27 9.5,13.5; D28 10.5,13.5; D29 11.5,13.5; D30 12.5,13.5; D31 13.5,13.5; D32 14.5,13.5; D33 15.5,13.5; D34 16.5,13.5; E1 -16.5,12.5; E2 -15.5,12.5; E3 -14.5,12.5; E4 -13.5,12.5; E5 -12.5,12.5; E6 -11.5,12.5; E7 -10.5,12.5; E8 -9.5,12.5; E9 -8.5,12.5; E10 -7.5,12.5; E11 -6.5,12.5; E12 -5.5,12.5; E13 -4.5,12.5; E14 -3.5,12.5; E15 -2.5,12.5; E16 -1.5,12.5; E17 -0.5,12.5; E18 0.5,12.5; E19 1.5,12.5; E20 2.5,12.5; E21 3.5,12.5; E22 4.5,12.5; E23 5.5,12.5; E24 6.5,12.5; E25 7.5,12.5; E26 8.5,12.5; E27 9.5,12.5; E28 10.5,12.5; E29 11.5,12.5; E30 12.5,12.5; E31 13.5,12.5; E32 14.5,12.5; E33 15.5,12.5; E34 16.5,12.5; F1 -16.5,11.5; F2 -15.5,11.5; F3 -14.5,11.5; F4 -13.5,11.5; F5 -12.5,11.5; F6 -11.5,11.5; F7 -10.5,11.5; F8 -9.5,11.5; F9 -8.5,11.5; F10 -7.5,11.5; F11 -6.5,11.5; F12 -5.5,11.5; F13 -4.5,11.5; F14 -3.5,11.5; F15 -2.5,11.5; F16 -1.5,11.5; F17 -0.5,11.5; F18 0.5,11.5; F19 1.5,11.5; F20 2.5,11.5; F21 3.5,11.5; F22 4.5,11.5; F23 5.5,11.5; F24 6.5,11.5; F25 7.5,11.5; F26 8.5,11.5; F27 9.5,11.5; F28 10.5,11.5; F29 11.5,11.5; F30 12.5,11.5; F31 13.5,11.5; F32 14.5,11.5; F33 15.5,11.5; F34 16.5,11.5; G1 -16.5,10.5; G2 -15.5,10.5; G3 -14.5,10.5; G4 -13.5,10.5; G5 -12.5,10.5; G6 -11.5,10.5; G7 -10.5,10.5; G8 -9.5,10.5; G9 -8.5,10.5; G10 -7.5,10.5; G11 -6.5,10.5; G12 -5.5,10.5; G13 -4.5,10.5; G14 -3.5,10.5; G15 -2.5,10.5; G16 -1.5,10.5; G17 -0.5,10.5; G18 0.5,10.5; G19 1.5,10.5; G20 2.5,10.5; G21 3.5,10.5; G22 4.5,10.5; G23 5.5,10.5; G24 6.5,10.5; G25 7.5,10.5; G26 8.5,10.5; G27 9.5,10.5; G28 10.5,10.5; G29 11.5,10.5; G30 12.5,10.5; G31 13.5,10.5; G32 14.5,10.5; G33 15.5,10.5; G34 16.5,10.5; H1 -16.5,9.5; H2 -15.5,9.5; H3 -14.5,9.5; H4 -13.5,9.5; H5 -12.5,9.5; H6 -11.5,9.5; H7 -10.5,9.5; H8 -9.5,9.5; H9 -8.5,9.5; H10 -7.5,9.5; H11 -6.5,9.5; H12 -5.5,9.5; H13 -4.5,9.5; H14 -3.5,9.5; H15 -2.5,9.5; H16 -1.5,9.5; H17 -0.5,9.5; H18 0.5,9.5; H19 1.5,9.5; H20 2.5,9.5; H21 3.5,9.5; H22 4.5,9.5; H23 5.5,9.5; H24 6.5,9.5; H25 7.5,9.5; H26 8.5,9.5; H27 9.5,9.5; H28 10.5,9.5; H29 11.5,9.5; H30 12.5,9.5; H31 13.5,9.5; H32 14.5,9.5; H33 15.5,9.5; H34 16.5,9.5; J1 -16.5,8.5; J2 -15.5,8.5; J3 -14.5,8.5; J4 -13.5,8.5; J5 -12.5,8.5; J6 -11.5,8.5; J7 -10.5,8.5; J8 -9.5,8.5; J9 -8.5,8.5; J10 -7.5,8.5; J11 -6.5,8.5; J12 -5.5,8.5; J13 -4.5,8.5; J14 -3.5,8.5; J15 -2.5,8.5; J16 -1.5,8.5; J17 -0.5,8.5; J18 0.5,8.5; J19 1.5,8.5; J20 2.5,8.5; J21 3.5,8.5; J22 4.5,8.5; J23 5.5,8.5; J24 6.5,8.5; J25 7.5,8.5; J26 8.5,8.5; J27 9.5,8.5; J28 10.5,8.5; J29 11.5,8.5; J30 12.5,8.5; J31 13.5,8.5; J32 14.5,8.5; J33 15.5,8.5; J34 16.5,8.5; K1 -16.5,7.5; K2 -15.5,7.5; K3 -14.5,7.5; K4 -13.5,7.5; K5 -12.5,7.5; K6 -11.5,7.5; K7 -10.5,7.5; K8 -9.5,7.5; K9 -8.5,7.5; K10 -7.5,7.5; K11 -6.5,7.5; K12 -5.5,7.5; K13 -4.5,7.5; K14 -3.5,7.5; K15 -2.5,7.5; K16 -1.5,7.5; K17 -0.5,7.5; K18 0.5,7.5; K19 1.5,7.5; K20 2.5,7.5; K21 3.5,7.5; K22 4.5,7.5; K23 5.5,7.5; K24 6.5,7.5; K25 7.5,7.5; K26 8.5,7.5; K27 9.5,7.5; K28 10.5,7.5; K29 11.5,7.5; K30 12.5,7.5; K31 13.5,7.5; K32 14.5,7.5; K33 15.5,7.5; K34 16.5,7.5; L1 -16.5,6.5; L2 -15.5,6.5; L3 -14.5,6.5; L4 -13.5,6.5; L5 -12.5,6.5; L6 -11.5,6.5; L7 -10.5,6.5; L8 -9.5,6.5; L9 -8.5,6.5; L10 -7.5,6.5; L11 -6.5,6.5; L12 -5.5,6.5; L13 -4.5,6.5; L14 -3.5,6.5; L15 -2.5,6.5; L16 -1.5,6.5; L17 -0.5,6.5; L18 0.5,6.5; L19 1.5,6.5; L20 2.5,6.5; L21 3.5,6.5; L22 4.5,6.5; L23 5.5,6.5; L24 6.5,6.5; L25 7.5,6.5; L26 8.5,6.5; L27 9.5,6.5; L28 10.5,6.5; L29 11.5,6.5; L30 12.5,6.5; L31 13.5,6.5; L32 14.5,6.5; L33 15.5,6.5; L34 16.5,6.5; M1 -16.5,5.5; M2 -15.5,5.5; M3 -14.5,5.5; M4 -13.5,5.5; M5 -12.5,5.5; M6 -11.5,5.5; M7 -10.5,5.5; M8 -9.5,5.5; M9 -8.5,5.5; M10 -7.5,5.5; M11 -6.5,5.5; M12 -5.5,5.5; M13 -4.5,5.5; M14 -3.5,5.5; M15 -2.5,5.5; M16 -1.5,5.5; M17 -0.5,5.5; M18 0.5,5.5; M19 1.5,5.5; M20 2.5,5.5; M21 3.5,5.5; M22 4.5,5.5; M23 5.5,5.5; M24 6.5,5.5; M25 7.5,5.5; M26 8.5,5.5; M27 9.5,5.5; M28 10.5,5.5; M29 11.5,5.5; M30 12.5,5.5; M31 13.5,5.5; M32 14.5,5.5; M33 15.5,5.5; M34 16.5,5.5; N1 -16.5,4.5; N2 -15.5,4.5; N3 -14.5,4.5; N4 -13.5,4.5; N5 -12.5,4.5; N6 -11.5,4.5; N7 -10.5,4.5; N8 -9.5,4.5; N9 -8.5,4.5; N10 -7.5,4.5; N11 -6.5,4.5; N12 -5.5,4.5; N13 -4.5,4.5; N14 -3.5,4.5; N15 -2.5,4.5; N16 -1.5,4.5; N17 -0.5,4.5; N18 0.5,4.5; N19 1.5,4.5; N20 2.5,4.5; N21 3.5,4.5; N22 4.5,4.5; N23 5.5,4.5; N24 6.5,4.5; N25 7.5,4.5; N26 8.5,4.5; N27 9.5,4.5; N28 10.5,4.5; N29 11.5,4.5; N30 12.5,4.5; N31 13.5,4.5; N32 14.5,4.5; N33 15.5,4.5; N34 16.5,4.5; P1 -16.5,3.5; P2 -15.5,3.5; P3 -14.5,3.5; P4 -13.5,3.5; P5 -12.5,3.5; P6 -11.5,3.5; P7 -10.5,3.5; P8 -9.5,3.5; P9 -8.5,3.5; P10 -7.5,3.5; P11 -6.5,3.5; P12 -5.5,3.5; P13 -4.5,3.5; P14 -3.5,3.5; P15 -2.5,3.5; P16 -1.5,3.5; P17 -0.5,3.5; P18 0.5,3.5; P19 1.5,3.5; P20 2.5,3.5; P21 3.5,3.5; P22 4.5,3.5; P23 5.5,3.5; P24 6.5,3.5; P25 7.5,3.5; P26 8.5,3.5; P27 9.5,3.5; P28 10.5,3.5; P29 11.5,3.5; P30 12.5,3.5; P31 13.5,3.5; P32 14.5,3.5; P33 15.5,3.5; P34 16.5,3.5; R1 -16.5,2.5; R2 -15.5,2.5; R3 -14.5,2.5; R4 -13.5,2.5; R5 -12.5,2.5; R6 -11.5,2.5; R7 -10.5,2.5; R8 -9.5,2.5; R9 -8.5,2.5; R10 -7.5,2.5; R11 -6.5,2.5; R12 -5.5,2.5; R13 -4.5,2.5; R14 -3.5,2.5; R15 -2.5,2.5; R16 -1.5,2.5; R17 -0.5,2.5; R18 0.5,2.5; R19 1.5,2.5; R20 2.5,2.5; R21 3.5,2.5; R22 4.5,2.5; R23 5.5,2.5; R24 6.5,2.5; R25 7.5,2.5; R26 8.5,2.5; R27 9.5,2.5; R28 10.5,2.5; R29 11.5,2.5; R30 12.5,2.5; R31 13.5,2.5; R32 14.5,2.5; R33 15.5,2.5; R34 16.5,2.5; T1 -16.5,1.5; T2 -15.5,1.5; T3 -14.5,1.5; T4 -13.5,1.5; T5 -12.5,1.5; T6 -11.5,1.5; T7 -10.5,1.5; T8 -9.5,1.5; T9 -8.5,1.5; T10 -7.5,1.5; T11 -6.5,1.5; T12 -5.5,1.5; T13 -4.5,1.5; T14 -3.5,1.5; T15 -2.5,1.5; T16 -1.5,1.5; T17 -0.5,1.5; T18 0.5,1.5; T19 1.5,1.5; T20 2.5,1.5; T21 3.5,1.5; T22 4.5,1.5; T23 5.5,1.5; T24 6.5,1.5; T25 7.5,1.5; T26 8.5,1.5; T27 9.5,1.5; T28 10.5,1.5; T29 11.5,1.5; T30 12.5,1.5; T31 13.5,1.5; T32 14.5,1.5; T33 15.5,1.5; T34 16.5,1.5; U1 -16.5,0.5; U2 -15.5,0.5; U3 -14.5,0.5; U4 -13.5,0.5; U5 -12.5,0.5; U6 -11.5,0.5; U7 -10.5,0.5; U8 -9.5,0.5; U9 -8.5,0.5; U10 -7.5,0.5; U11 -6.5,0.5; U12 -5.5,0.5; U13 -4.5,0.5; U14 -3.5,0.5; U15 -2.5,0.5; U16 -1.5,0.5; U17 -0.5,0.5; U18 0.5,0.5; U19 1.5,0.5; U20 2.5,0.5; U21 3.5,0.5; U22 4.5,0.5; U23 5.5,0.5; U24 6.5,0.5; U25 7.5,0.5; U26 8.5,0.5; U27 9.5,0.5; U28 10.5,0.5; U29 11.5,0.5; U30 12.5,0.5; U31 13.5,0.5; U32 14.5,0.5; U33 15.5,0.5; U34 16.5,0.5; V1 -16.5,-0.5; V2 -15.5,-0.5; V3 -14.5,-0.5; V4 -13.5,-0.5; V5 -12.5,-0.5; V6 -11.5,-0.5; V7 -10.5,-0.5; V8 -9.5,-0.5; V9 -8.5,-0.5; V10 -7.5,-0.5; V11 -6.5,-0.5; V12 -5.5,-0.5; V13 -4.5,-0.5; V14 -3.5,-0.5; V15 -2.5,-0.5; V16 -1.5,-0.5; V17 -0.5,-0.5; V18 0.5,-0.5; V19 1.5,-0.5; V20 2.5,-0.5; V21 3.5,-0.5; V22 4.5,-0.5; V23 5.5,-0.5; V24 6.5,-0.5; V25 7.5,-0.5; V26 8.5,-0.5; V27 9.5,-0.5; V28 10.5,-0.5; V29 11.5,-0.5; V30 12.5,-0.5; V31 13.5,-0.5; V32 14.5,-0.5; V33 15.5,-0.5; V34 16.5,-0.5; W1 -16.5,-1.5; W2 -15.5,-1.5; W3 -14.5,-1.5; W4 -13.5,-1.5; W5 -12.5,-1.5; W6 -11.5,-1.5; W7 -10.5,-1.5; W8 -9.5,-1.5; W9 -8.5,-1.5; W10 -7.5,-1.5; W11 -6.5,-1.5; W12 -5.5,-1.5; W13 -4.5,-1.5; W14 -3.5,-1.5; W15 -2.5,-1.5; W16 -1.5,-1.5; W17 -0.5,-1.5; W18 0.5,-1.5; W19 1.5,-1.5; W20 2.5,-1.5; W21 3.5,-1.5; W22 4.5,-1.5; W23 5.5,-1.5; W24 6.5,-1.5; W25 7.5,-1.5; W26 8.5,-1.5; W27 9.5,-1.5; W28 10.5,-1.5; W29 11.5,-1.5; W30 12.5,-1.5; W31 13.5,-1.5; W32 14.5,-1.5; W33 15.5,-1.5; W34 16.5,-1.5; Y1 -16.5,-2.5; Y2 -15.5,-2.5; Y3 -14.5,-2.5; Y4 -13.5,-2.5; Y5 -12.5,-2.5; Y6 -11.5,-2.5; Y7 -10.5,-2.5; Y8 -9.5,-2.5; Y9 -8.5,-2.5; Y10 -7.5,-2.5; Y11 -6.5,-2.5; Y12 -5.5,-2.5; Y13 -4.5,-2.5; Y14 -3.5,-2.5; Y15 -2.5,-2.5; Y16 -1.5,-2.5; Y17 -0.5,-2.5; Y18 0.5,-2.5; Y19 1.5,-2.5; Y20 2.5,-2.5; Y21 3.5,-2.5; Y22 4.5,-2.5; Y23 5.5,-2.5; Y24 6.5,-2.5; Y25 7.5,-2.5; Y26 8.5,-2.5; Y27 9.5,-2.5; Y28 10.5,-2.5; Y29 11.5,-2.5; Y30 12.5,-2.5; Y31 13.5,-2.5; Y32 14.5,-2.5; Y33 15.5,-2.5; Y34 16.5,-2.5